# EAGLE library part 5CEAB2?? (library crasbe)
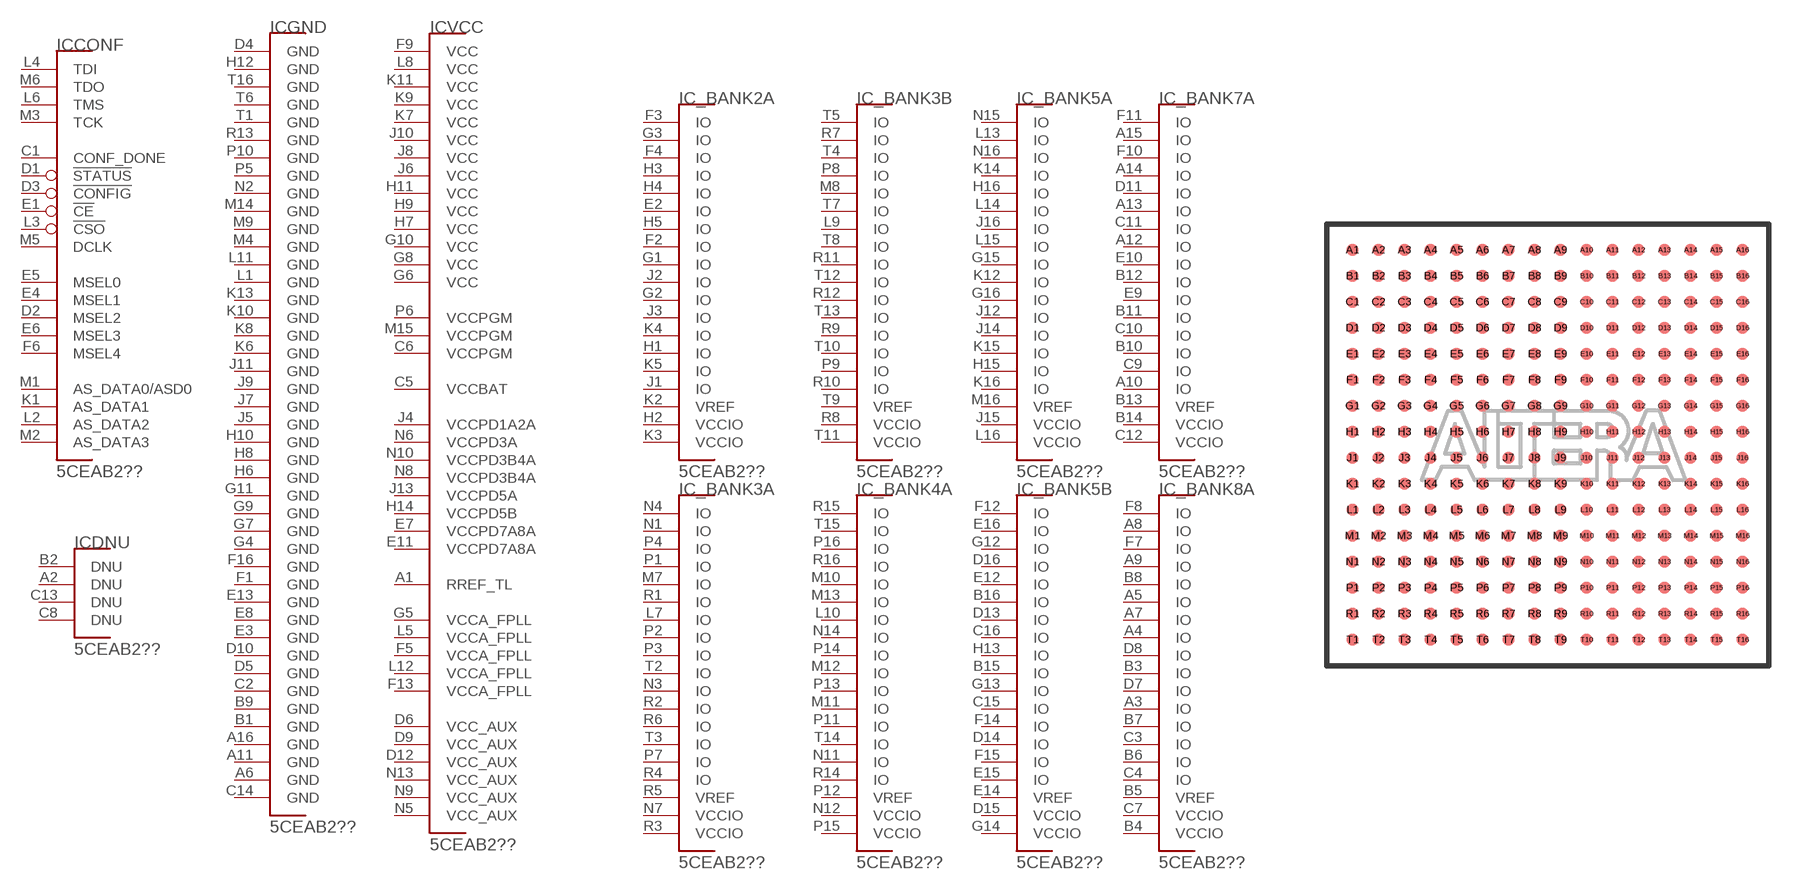
[diagram p38: symbol with the pads of FBGA256; footprint FBGA256]

Designator prefix IC; gates CONF=5CEAB2_CONFIG GND=5CEAB2_GND VCC=5CEAB2_VCC DNU=5CEAB2_DNU _BANK2A=5CEBA2_BANK _BANK3A=5CEBA2_BANK _BANK3B=5CEBA2_BANK _BANK4A=5CEBA2_BANK _BANK5A=5CEBA2_BANK _BANK5B=5CEBA2_BANK _BANK7A=5CEBA2_BANK _BANK8A=5CEBA2_BANK

## 5CEAB2  [FBGA256]
A1  VCC:RREF_TL  pwr
A2  DNU:DNU  nc
A3  _BANK8A:IO
A4  _BANK8A:IO
A5  _BANK8A:IO
A6  GND:GND  pwr
A7  _BANK8A:IO
A8  _BANK8A:IO
A9  _BANK8A:IO
A10  _BANK7A:IO
A11  GND:GND  pwr
A12  _BANK7A:IO
A13  _BANK7A:IO
A14  _BANK7A:IO
A15  _BANK7A:IO
A16  GND:GND  pwr
B1  GND:GND  pwr
B2  DNU:DNU  nc
B3  _BANK8A:IO
B4  _BANK8A:VCCIO  pwr
B5  _BANK8A:VREF  pwr
B6  _BANK8A:IO
B7  _BANK8A:IO
B8  _BANK8A:IO
B9  GND:GND  pwr
B10  _BANK7A:IO
B11  _BANK7A:IO
B12  _BANK7A:IO
B13  _BANK7A:VREF  pwr
B14  _BANK7A:VCCIO  pwr
B15  _BANK5B:IO
B16  _BANK5B:IO
C1  CONF:CONF_DONE  out
C2  GND:GND  pwr
C3  _BANK8A:IO
C4  _BANK8A:IO
C5  VCC:VCCBAT  pwr
C6  VCC:VCCPGM  pwr
C7  _BANK8A:VCCIO  pwr
C8  DNU:DNU  nc
C9  _BANK7A:IO
C10  _BANK7A:IO
C11  _BANK7A:IO
C12  _BANK7A:VCCIO  pwr
C13  DNU:DNU  nc
C14  GND:GND  pwr
C15  _BANK5B:IO
C16  _BANK5B:IO
D1  CONF:!STATUS
D2  CONF:MSEL2  in
D3  CONF:!CONFIG
D4  GND:GND  pwr
D5  GND:GND  pwr
D6  VCC:VCC_AUX  pwr
D7  _BANK8A:IO
D8  _BANK8A:IO
D9  VCC:VCC_AUX  pwr
D10  GND:GND  pwr
D11  _BANK7A:IO
D12  VCC:VCC_AUX  pwr
D13  _BANK5B:IO
D14  _BANK5B:IO
D15  _BANK5B:VCCIO  pwr
D16  _BANK5B:IO
E1  CONF:!CE
E2  _BANK2A:IO
E3  GND:GND  pwr
E4  CONF:MSEL1  in
E5  CONF:MSEL0  in
E6  CONF:MSEL3  in
E7  VCC:VCCPD7A8A  pwr
E8  GND:GND  pwr
E9  _BANK7A:IO
E10  _BANK7A:IO
E11  VCC:VCCPD7A8A  pwr
E12  _BANK5B:IO
E13  GND:GND  pwr
E14  _BANK5B:VREF  pwr
E15  _BANK5B:IO
E16  _BANK5B:IO
F1  GND:GND  pwr
F2  _BANK2A:IO
F3  _BANK2A:IO
F4  _BANK2A:IO
F5  VCC:VCCA_FPLL  pwr
F6  CONF:MSEL4  in
F7  _BANK8A:IO
F8  _BANK8A:IO
F9  VCC:VCC  pwr
F10  _BANK7A:IO
F11  _BANK7A:IO
F12  _BANK5B:IO
F13  VCC:VCCA_FPLL  pwr
F14  _BANK5B:IO
F15  _BANK5B:IO
F16  GND:GND  pwr
G1  _BANK2A:IO
G2  _BANK2A:IO
G3  _BANK2A:IO
G4  GND:GND  pwr
G5  VCC:VCCA_FPLL  pwr
G6  VCC:VCC  pwr
G7  GND:GND  pwr
G8  VCC:VCC  pwr
G9  GND:GND  pwr
G10  VCC:VCC  pwr
G11  GND:GND  pwr
G12  _BANK5B:IO
G13  _BANK5B:IO
G14  _BANK5B:VCCIO  pwr
G15  _BANK5A:IO
G16  _BANK5A:IO
H1  _BANK2A:IO
H2  _BANK2A:VCCIO  pwr
H3  _BANK2A:IO
H4  _BANK2A:IO
H5  _BANK2A:IO
H6  GND:GND  pwr
H7  VCC:VCC  pwr
H8  GND:GND  pwr
H9  VCC:VCC  pwr
H10  GND:GND  pwr
H11  VCC:VCC  pwr
H12  GND:GND  pwr
H13  _BANK5B:IO
H14  VCC:VCCPD5B  pwr
H15  _BANK5A:IO
H16  _BANK5A:IO
J1  _BANK2A:IO
J2  _BANK2A:IO
J3  _BANK2A:IO
J4  VCC:VCCPD1A2A  pwr
J5  GND:GND  pwr
J6  VCC:VCC  pwr
J7  GND:GND  pwr
J8  VCC:VCC  pwr
J9  GND:GND  pwr
J10  VCC:VCC  pwr
J11  GND:GND  pwr
J12  _BANK5A:IO
J13  VCC:VCCPD5A  pwr
J14  _BANK5A:IO
J15  _BANK5A:VCCIO  pwr
J16  _BANK5A:IO
K1  CONF:AS_DATA1
K2  _BANK2A:VREF  pwr
K3  _BANK2A:VCCIO  pwr
K4  _BANK2A:IO
K5  _BANK2A:IO
K6  GND:GND  pwr
K7  VCC:VCC  pwr
K8  GND:GND  pwr
K9  VCC:VCC  pwr
K10  GND:GND  pwr
K11  VCC:VCC  pwr
K12  _BANK5A:IO
K13  GND:GND  pwr
K14  _BANK5A:IO
K15  _BANK5A:IO
K16  _BANK5A:IO
L1  GND:GND  pwr
L2  CONF:AS_DATA2
L3  CONF:!CSO  in
L4  CONF:TDI  in
L5  VCC:VCCA_FPLL  pwr
L6  CONF:TMS  in
L7  _BANK3A:IO
L8  VCC:VCC  pwr
L9  _BANK3B:IO
L10  _BANK4A:IO
L11  GND:GND  pwr
L12  VCC:VCCA_FPLL  pwr
L13  _BANK5A:IO
L14  _BANK5A:IO
L15  _BANK5A:IO
L16  _BANK5A:VCCIO  pwr
M1  CONF:AS_DATA0/ASD0
M2  CONF:AS_DATA3
M3  CONF:TCK  in
M4  GND:GND  pwr
M5  CONF:DCLK
M6  CONF:TDO  out
M7  _BANK3A:IO
M8  _BANK3B:IO
M9  GND:GND  pwr
M10  _BANK4A:IO
M11  _BANK4A:IO
M12  _BANK4A:IO
M13  _BANK4A:IO
M14  GND:GND  pwr
M15  VCC:VCCPGM  pwr
M16  _BANK5A:VREF  pwr
N1  _BANK3A:IO
N2  GND:GND  pwr
N3  _BANK3A:IO
N4  _BANK3A:IO
N5  VCC:VCC_AUX  pwr
N6  VCC:VCCPD3A  pwr
N7  _BANK3A:VCCIO  pwr
N8  VCC:VCCPD3B4A  pwr
N9  VCC:VCC_AUX  pwr
N10  VCC:VCCPD3B4A  pwr
N11  _BANK4A:IO
N12  _BANK4A:VCCIO  pwr
N13  VCC:VCC_AUX  pwr
N14  _BANK4A:IO
N15  _BANK5A:IO
N16  _BANK5A:IO
P1  _BANK3A:IO
P2  _BANK3A:IO
P3  _BANK3A:IO
P4  _BANK3A:IO
P5  GND:GND  pwr
P6  VCC:VCCPGM  pwr
P7  _BANK3A:IO
P8  _BANK3B:IO
P9  _BANK3B:IO
P10  GND:GND  pwr
P11  _BANK4A:IO
P12  _BANK4A:VREF  pwr
P13  _BANK4A:IO
P14  _BANK4A:IO
P15  _BANK4A:VCCIO  pwr
P16  _BANK4A:IO
R1  _BANK3A:IO
R2  _BANK3A:IO
R3  _BANK3A:VCCIO  pwr
R4  _BANK3A:IO
R5  _BANK3A:VREF  pwr
R6  _BANK3A:IO
R7  _BANK3B:IO
R8  _BANK3B:VCCIO  pwr
R9  _BANK3B:IO
R10  _BANK3B:IO
R11  _BANK3B:IO
R12  _BANK3B:IO
R13  GND:GND  pwr
R14  _BANK4A:IO
R15  _BANK4A:IO
R16  _BANK4A:IO
T1  GND:GND  pwr
T2  _BANK3A:IO
T3  _BANK3A:IO
T4  _BANK3B:IO
T5  _BANK3B:IO
T6  GND:GND  pwr
T7  _BANK3B:IO
T8  _BANK3B:IO
T9  _BANK3B:VREF  pwr
T10  _BANK3B:IO
T11  _BANK3B:VCCIO  pwr
T12  _BANK3B:IO
T13  _BANK3B:IO
T14  _BANK4A:IO
T15  _BANK4A:IO
T16  GND:GND  pwr

## Footprint FBGA256 (pad centres in mm)
smd 0.45 x 0.45: A1 -7.5,7.5; A2 -6.5,7.5; A3 -5.5,7.5; A4 -4.5,7.5; A5 -3.5,7.5; A6 -2.5,7.5; A7 -1.5,7.5; A8 -0.5,7.5; A9 0.5,7.5; A10 1.5,7.5; A11 2.5,7.5; A12 3.5,7.5; A13 4.5,7.5; A14 5.5,7.5; A15 6.5,7.5; A16 7.5,7.5; B1 -7.5,6.5; B2 -6.5,6.5; B3 -5.5,6.5; B4 -4.5,6.5; B5 -3.5,6.5; B6 -2.5,6.5; B7 -1.5,6.5; B8 -0.5,6.5; B9 0.5,6.5; B10 1.5,6.5; B11 2.5,6.5; B12 3.5,6.5; B13 4.5,6.5; B14 5.5,6.5; B15 6.5,6.5; B16 7.5,6.5; C1 -7.5,5.5; C2 -6.5,5.5; C3 -5.5,5.5; C4 -4.5,5.5; C5 -3.5,5.5; C6 -2.5,5.5; C7 -1.5,5.5; C8 -0.5,5.5; C9 0.5,5.5; C10 1.5,5.5; C11 2.5,5.5; C12 3.5,5.5; C13 4.5,5.5; C14 5.5,5.5; C15 6.5,5.5; C16 7.5,5.5; D1 -7.5,4.5; D2 -6.5,4.5; D3 -5.5,4.5; D4 -4.5,4.5; D5 -3.5,4.5; D6 -2.5,4.5; D7 -1.5,4.5; D8 -0.5,4.5; D9 0.5,4.5; D10 1.5,4.5; D11 2.5,4.5; D12 3.5,4.5; D13 4.5,4.5; D14 5.5,4.5; D15 6.5,4.5; D16 7.5,4.5; E1 -7.5,3.5; E2 -6.5,3.5; E3 -5.5,3.5; E4 -4.5,3.5; E5 -3.5,3.5; E6 -2.5,3.5; E7 -1.5,3.5; E8 -0.5,3.5; E9 0.5,3.5; E10 1.5,3.5; E11 2.5,3.5; E12 3.5,3.5; E13 4.5,3.5; E14 5.5,3.5; E15 6.5,3.5; E16 7.5,3.5; F1 -7.5,2.5; F2 -6.5,2.5; F3 -5.5,2.5; F4 -4.5,2.5; F5 -3.5,2.5; F6 -2.5,2.5; F7 -1.5,2.5; F8 -0.5,2.5; F9 0.5,2.5; F10 1.5,2.5; F11 2.5,2.5; F12 3.5,2.5; F13 4.5,2.5; F14 5.5,2.5; F15 6.5,2.5; F16 7.5,2.5; G1 -7.5,1.5; G2 -6.5,1.5; G3 -5.5,1.5; G4 -4.5,1.5; G5 -3.5,1.5; G6 -2.5,1.5; G7 -1.5,1.5; G8 -0.5,1.5; G9 0.5,1.5; G10 1.5,1.5; G11 2.5,1.5; G12 3.5,1.5; G13 4.5,1.5; G14 5.5,1.5; G15 6.5,1.5; G16 7.5,1.5; H1 -7.5,0.5; H2 -6.5,0.5; H3 -5.5,0.5; H4 -4.5,0.5; H5 -3.5,0.5; H6 -2.5,0.5; H7 -1.5,0.5; H8 -0.5,0.5; H9 0.5,0.5; H10 1.5,0.5; H11 2.5,0.5; H12 3.5,0.5; H13 4.5,0.5; H14 5.5,0.5; H15 6.5,0.5; H16 7.5,0.5; J1 -7.5,-0.5; J2 -6.5,-0.5; J3 -5.5,-0.5; J4 -4.5,-0.5; J5 -3.5,-0.5; J6 -2.5,-0.5; J7 -1.5,-0.5; J8 -0.5,-0.5; J9 0.5,-0.5; J10 1.5,-0.5; J11 2.5,-0.5; J12 3.5,-0.5; J13 4.5,-0.5; J14 5.5,-0.5; J15 6.5,-0.5; J16 7.5,-0.5; K1 -7.5,-1.5; K2 -6.5,-1.5; K3 -5.5,-1.5; K4 -4.5,-1.5; K5 -3.5,-1.5; K6 -2.5,-1.5; K7 -1.5,-1.5; K8 -0.5,-1.5; K9 0.5,-1.5; K10 1.5,-1.5; K11 2.5,-1.5; K12 3.5,-1.5; K13 4.5,-1.5; K14 5.5,-1.5; K15 6.5,-1.5; K16 7.5,-1.5; L1 -7.5,-2.5; L2 -6.5,-2.5; L3 -5.5,-2.5; L4 -4.5,-2.5; L5 -3.5,-2.5; L6 -2.5,-2.5; L7 -1.5,-2.5; L8 -0.5,-2.5; L9 0.5,-2.5; L10 1.5,-2.5; L11 2.5,-2.5; L12 3.5,-2.5; L13 4.5,-2.5; L14 5.5,-2.5; L15 6.5,-2.5; L16 7.5,-2.5; M1 -7.5,-3.5; M2 -6.5,-3.5; M3 -5.5,-3.5; M4 -4.5,-3.5; M5 -3.5,-3.5; M6 -2.5,-3.5; M7 -1.5,-3.5; M8 -0.5,-3.5; M9 0.5,-3.5; M10 1.5,-3.5; M11 2.5,-3.5; M12 3.5,-3.5; M13 4.5,-3.5; M14 5.5,-3.5; M15 6.5,-3.5; M16 7.5,-3.5; N1 -7.5,-4.5; N2 -6.5,-4.5; N3 -5.5,-4.5; N4 -4.5,-4.5; N5 -3.5,-4.5; N6 -2.5,-4.5; N7 -1.5,-4.5; N8 -0.5,-4.5; N9 0.5,-4.5; N10 1.5,-4.5; N11 2.5,-4.5; N12 3.5,-4.5; N13 4.5,-4.5; N14 5.5,-4.5; N15 6.5,-4.5; N16 7.5,-4.5; P1 -7.5,-5.5; P2 -6.5,-5.5; P3 -5.5,-5.5; P4 -4.5,-5.5; P5 -3.5,-5.5; P6 -2.5,-5.5; P7 -1.5,-5.5; P8 -0.5,-5.5; P9 0.5,-5.5; P10 1.5,-5.5; P11 2.5,-5.5; P12 3.5,-5.5; P13 4.5,-5.5; P14 5.5,-5.5; P15 6.5,-5.5; P16 7.5,-5.5; R1 -7.5,-6.5; R2 -6.5,-6.5; R3 -5.5,-6.5; R4 -4.5,-6.5; R5 -3.5,-6.5; R6 -2.5,-6.5; R7 -1.5,-6.5; R8 -0.5,-6.5; R9 0.5,-6.5; R10 1.5,-6.5; R11 2.5,-6.5; R12 3.5,-6.5; R13 4.5,-6.5; R14 5.5,-6.5; R15 6.5,-6.5; R16 7.5,-6.5; T1 -7.5,-7.5; T2 -6.5,-7.5; T3 -5.5,-7.5; T4 -4.5,-7.5; T5 -3.5,-7.5; T6 -2.5,-7.5; T7 -1.5,-7.5; T8 -0.5,-7.5; T9 0.5,-7.5; T10 1.5,-7.5; T11 2.5,-7.5; T12 3.5,-7.5; T13 4.5,-7.5; T14 5.5,-7.5; T15 6.5,-7.5; T16 7.5,-7.5